# Altium integrated library USB.IntLib: 1 symbol
Pins are listed as number, name and electrical type; pins without a type are passive.

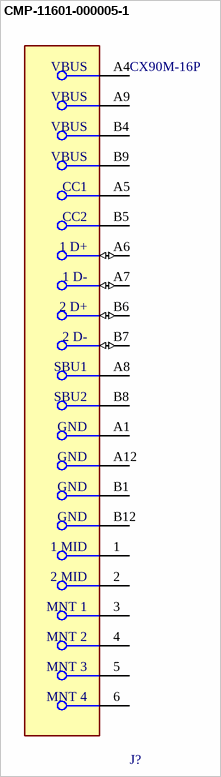
[diagram p0: symbol CMP-11601-000005-1]

## CMP-11601-000005-1
designator J?, comment CX90M-16P
CONN RCPT USB2.0 TYPEC 16POS SMD; Connector Type: USB; Current Rating: 1.25A; Mating Cycles: 10000; Number of Contacts: 16; Gender: Receptacle; Shielding: Shielded; Number of Ports: 1; Insulation Color: Black; Termination: Solder; Min Operating Temperature: -30°C; Flammability Rating: UL94 V-0; Max Operating Temperature: 85°C; Packaging: Cut Tape; Contact Plating: Gold; Mount: Surface Mount
footprint FP-CX90M-16P-MFG
pins: 1 1 MID, 2 2 MID, 3 MNT 1, 4 MNT 2, 5 MNT 3, 6 MNT 4, A1 GND (power), A4 VBUS (power), A5 CC1, A6 1 D+ (io), A7 1 D- (io), A8 SBU1, A9 VBUS (power), A12 GND (power), B1 GND (power), B4 VBUS (power), B5 CC2, B6 2 D+ (io), B7 2 D- (io), B8 SBU2, B9 VBUS (power), B12 GND (power)